# Altium footprint library Hello.PcbLib: 234 footprints (part 2 of 15)
Each footprint in its own frame and in the unit in brackets; x right, y up, seen from the top. Pads: shape width x height; smd on the part's side, far side on the other; paste and mask are expansions set on the pad; w line width, h text height; cw(c..) or ccw(c..) is an arc to the next point about the centre after c.
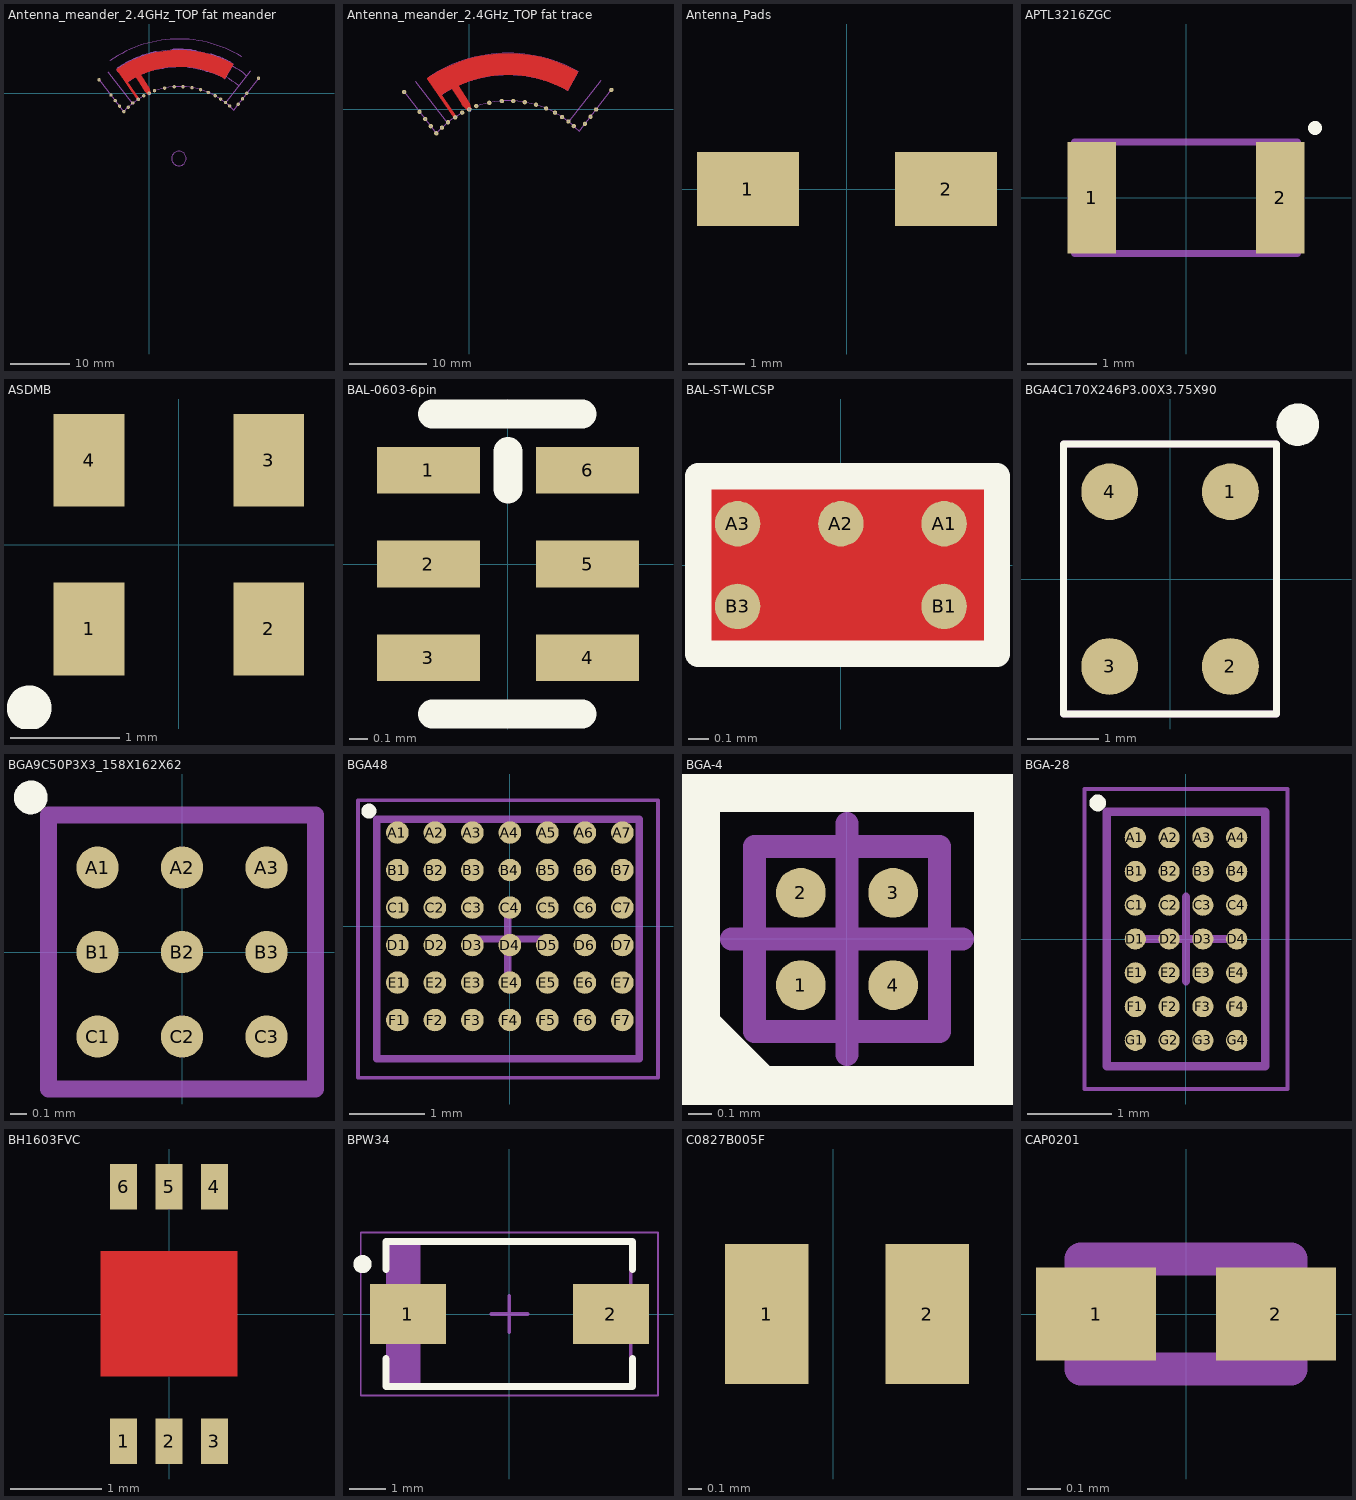
[diagram p1: the footprints below, top view; thin cyan lines are the x and y axes]

## Antenna_meander_2.4GHz_TOP fat meander [mm] "Antenna in a meander shape"
pads (25):
  round 0.559 hole 0.305 paste-1: 1(0,0)
  round 0.559 hole 0.2 paste-1: 2(-8.429,2.249) 2(-6.43,-0.318) 2(-5.705,-1.248) 2(-4.98,-2.179) 2(-4.261,-3.101) 2(-3.532,-2.367) 2(-2.757,-1.667) 2(-1.82,-1.038) 2(-0.906,-0.423) 2(0.906,0.423) 2(2.6,0.85) 2(4.225,1.075) 2(5.7,1.075) 2(7.2,0.925) 2(8.65,0.6) 2(9.95,0.125) 2(11.106,-0.423) 2(12.025,-1) 2(12.843,-1.567) 2(13.543,-2.167) 2(14.981,-1.878) 2(15.706,-0.948) 2(16.431,-0.017) 2(18.406,2.518)
Top Layer:
  region: -3.759,1.779 -5.326,4.101 -4.988,4.336 -3.852,5.01 -2.67,5.602 -1.449,6.107 -0.195,6.525 1.085,6.852 2.386,7.086 3.699,7.227 5.02,7.275 6.341,7.227 7.655,7.086 8.955,6.852 10.235,6.525 11.489,6.107 12.71,5.602 13.892,5.01 14.116,4.877 14.113,4.874 12.735,2.437 12.153,2.762 11.033,3.279 9.875,3.706 8.688,4.041 7.478,4.281 6.253,4.426 5.02,4.475 3.787,4.426 2.562,4.281 1.352,4.041 0.165,3.706 -0.993,3.279 -2.113,2.762 -3.189,2.16
  region: 0,0.925 0.275,0.075 0.1,-0.15 -0.2,-0.175 -0.8,0.4 -0.494,0.8
  lines w0.45: -5.238,3.95 -1.813,-1.025
  lines w1: -3.068,4.845 -0.47,0.762
Bottom Layer:
  circle w0.1: c0,0 r0.168
  circle w0.1: c0,0 r0.25
Mechanical 13:
  circle w0.1: c5,-11 r1.221
  lines w0.1: -6.604,5.428 cw(c5,-11) 15.541,6.129 ; -3.951,2.078 cw(c5,-11) 15.095,1.217 ; -0.198,6.233 ccw(c5,-11) -5.16,3.859 cw(c5,-11) 16.361,2.962
  lines w1: -4.961,3.992 cw(c5,-11) 1.104,6.573 ; 0.989,6.531 1.659,4.586 ; 1.57,4.472 cw(c5,-11) 4.309,4.833 ; 4.2,6.9 4.389,4.899 ; 4.215,6.983 cw(c5,-11) 7.661,6.802 ; 6.764,4.75 cw(c3.338,-18.175) 10.501,3.871 ; 7.309,4.821 7.699,6.769 ; 9.862,4.178 10.522,6.063 ; 10.413,6.167 cw(c5,-11) 13.45,4.893
Mechanical 15:
  lines w0.05: -8.429,2.249 -4.255,-3.109 cw(c5.1,-11.4) -0.907,-0.438 ; -6.999,3.625 -2.825,-1.733 ; 0.924,0.382 cw(c5.1,-11.4) 14.222,-2.853 18.406,2.518 ; 12.735,2.437 ccw(c5.02,-11.237) -3.759,1.779 -5.325,4.1 cw(c5.02,-11.237) 14.113,4.874 12.735,2.437 ; 12.891,-1.625 17.075,3.747
Multi-Layer:
  pour cut-out: 19.225,3.575 14.5,-2.496 13.45,-1.675 12.175,-0.775 11.25,-0.2 10.05,0.375 8.709,0.85 7.25,1.2 5.7,1.375 4.225,1.35 2.55,1.125 0.8,0.65 0.95,0.15 1,-0.125 1,-0.4 0.9,-0.6 0.775,-0.75 0.65,-0.875 0.492,-0.975 0.3,-1.025 0.075,-1.05 -0.15,-1.05 -0.35,-0.95 -0.906,-0.423 -1.075,-0.25 -2.925,-1.45 -3.725,-2.15 -4.425,-2.875 -9.25,3.325 -5.95,5.988 -3.75,7.263 -1.05,8.213 1.15,8.725 3.075,9 4.9,9.113 6.925,9.013 8.6,8.8 10.65,8.338 13.125,7.525 15.6,6.225
3D body: height 0.1, standoff 0, extent -9.25,-3.3 19.225,9.113

## Antenna_meander_2.4GHz_TOP fat trace [mm] "Antenna in a meander shape"
pads (25):
  round 0.559 hole 0.305 paste-1: 1(0,0)
  round 0.559 hole 0.2 paste-1: 2(-8.429,2.249) 2(-6.43,-0.318) 2(-5.705,-1.248) 2(-4.98,-2.179) 2(-4.261,-3.101) 2(-3.532,-2.367) 2(-2.757,-1.667) 2(-1.82,-1.038) 2(-0.906,-0.423) 2(0.906,0.423) 2(2.6,0.85) 2(4.225,1.075) 2(5.7,1.075) 2(7.2,0.925) 2(8.65,0.6) 2(9.95,0.125) 2(11.106,-0.423) 2(12.025,-1) 2(12.843,-1.567) 2(13.543,-2.167) 2(14.981,-1.878) 2(15.706,-0.948) 2(16.431,-0.017) 2(18.406,2.518)
Top Layer:
  region: -3.759,1.779 -5.326,4.101 -4.988,4.336 -3.852,5.01 -2.67,5.602 -1.449,6.107 -0.195,6.525 1.085,6.852 2.386,7.086 3.699,7.227 5.02,7.275 6.341,7.227 7.655,7.086 8.955,6.852 10.235,6.525 11.489,6.107 12.71,5.602 13.892,5.01 14.116,4.877 14.113,4.874 12.735,2.437 12.153,2.762 11.033,3.279 9.875,3.706 8.688,4.041 7.478,4.281 6.253,4.426 5.02,4.475 3.787,4.426 2.562,4.281 1.352,4.041 0.165,3.706 -0.993,3.279 -2.113,2.762 -3.189,2.16
  region: 0,0.925 0.275,0.075 0.1,-0.15 -0.2,-0.175 -0.8,0.4 -0.494,0.8
  lines w0.45: -5.238,3.95 -1.813,-1.025
  lines w1: -3.068,4.845 -0.47,0.762
Bottom Layer:
  circle w0.1: c0,0 r0.168
  circle w0.1: c0,0 r0.25
Mechanical 15:
  lines w0.05: -8.429,2.249 -4.255,-3.109 cw(c5.1,-11.4) -0.907,-0.438 ; -6.999,3.625 -2.825,-1.733 ; 0.924,0.382 cw(c5.1,-11.4) 14.222,-2.853 18.406,2.518 ; 12.735,2.437 ccw(c5.02,-11.237) -3.759,1.779 -5.325,4.1 cw(c5.02,-11.237) 14.113,4.874 12.735,2.437 ; 12.891,-1.625 17.075,3.747
Multi-Layer:
  pour cut-out: 19.225,3.575 14.5,-2.496 13.45,-1.675 12.175,-0.775 11.25,-0.2 10.05,0.375 8.709,0.85 7.25,1.2 5.7,1.375 4.225,1.35 2.55,1.125 0.8,0.65 0.95,0.15 1,-0.125 1,-0.4 0.9,-0.6 0.775,-0.75 0.65,-0.875 0.492,-0.975 0.3,-1.025 0.075,-1.05 -0.15,-1.05 -0.35,-0.95 -0.906,-0.423 -1.075,-0.25 -2.925,-1.45 -3.725,-2.15 -4.425,-2.875 -9.25,3.325 -5.95,5.988 -3.75,7.263 -1.05,8.213 1.15,8.725 3.075,9 4.9,9.113 6.925,9.013 8.6,8.8 10.65,8.338 13.125,7.525 15.6,6.225
3D body: height 0.1, standoff 0, extent -9.25,-3.3 19.225,9.113

## Antenna_Pads [mm] "Antenna pads for external IFA"
pads (2):
  rect 1.8x1.3 smd: 1(-1.75,0) 2(1.75,0)

## APTL3216ZGC [mm] "Kingbright green LED"
height 1.1
pads (2):
  rect 0.7x1.6 smd: 1(-1.35,0) 2(1.35,0)
Top Overlay:
  circle w0.1: c1.85,1 r0.05
Mechanical 13:
  lines w0.1: -1.6,-0.8 -1.6,0.8 1.6,0.8 1.6,-0.8 -1.6,-0.8
3D body: height 1.1, standoff 0, extent -0.794,-0.798 0.8,0.798
3D body: height 0.25, standoff 0, extent -1.6,-0.8 1.6,0.8

## ASDMB [mm] "Abracon ASDMB Crystal Oscillator 2.5 x 2.0x 0.8mm"
height 0.8
pads (4):
  rect 0.65x0.85 smd: 1(-0.825,-0.775) 2(0.825,-0.775) 3(0.825,0.775) 4(-0.825,0.775)
Top Overlay:
  circle w0.3: c-1.375,-1.5 r0.056
3D body: height 0.8, standoff 0, extent -1.25,-1 1.25,1

## BAL-0603-6pin [mm] "1608 balun, 6-Pins, Body 0.8x1.6mm, Pitch 0.50mm"
height 0.7
pads (6):
  rect 0.55x0.25 smd: 1(-0.425,0.5) 2(-0.425,0) 3(-0.425,-0.5) 4(0.425,-0.5) 5(0.425,0) 6(0.425,0.5)
Top Overlay:
  lines w0.152: -0.405,-0.8 0.395,-0.8 ; -0.405,0.8 0.395,0.8 ; 0,0.4 0,0.6
3D body: height 0.6, standoff 0, extent -0.405,-0.8 0.395,0.8
3D body: height 0.62, standoff 0, extent -0.41,0.4 -0.26,0.6
3D body: height 0.62, standoff 0, extent -0.41,-0.1 -0.26,0.1
3D body: height 0.62, standoff 0, extent -0.41,-0.6 -0.26,-0.4
3D body: height 0.62, standoff 0, extent 0.26,-0.6 0.41,-0.4
3D body: height 0.62, standoff 0, extent 0.26,-0.1 0.41,0.1
3D body: height 0.62, standoff 0, extent 0.26,0.4 0.41,0.6
3D body: height 0.62, standoff 0, extent -0.04,0.4 0.04,0.6

## BAL-ST-WLCSP [mm]
pads (5):
  round 0.22 smd mask+0.05: A1(0.5,0.2) A2(0,0.2) A3(-0.5,0.2) B1(0.5,-0.2) B3(-0.5,-0.2)
Top Layer:
  pour cut-out: -0.697,-0.43 0.756,-0.43 0.756,0.44 -0.697,0.44
Top Overlay:
  lines w0.127: -0.69,-0.43 -0.69,0.43 0.756,0.43 0.756,-0.43 -0.69,-0.43
3D body: height 0.51, standoff 0.11, extent -0.69,-0.43 0.759,0.43
3D body: height 0.63, standoff 0.51, extent -0.703,-0.43 0.76,0.43
3D body: height 0.17, standoff -0.05, extent -0.109,0.091 0.11,0.31
3D body: height 0.17, standoff -0.05, extent 0.391,-0.309 0.61,-0.09
3D body: height 0.17, standoff -0.05, extent -0.609,0.091 -0.39,0.31
3D body: height 0.17, standoff -0.05, extent -0.609,-0.309 -0.39,-0.09
3D body: height 0.17, standoff -0.05, extent 0.391,0.091 0.61,0.31

## BGA4C170X246P3.00X3.75X90 [mm] "BGA, 4-Leads, Body 3.00x3.75mmx0.90mm, Pitch 0.1.70x2.46mm"
height 0.9
pads (4):
  round 0.8 smd: 1(0.85,1.23) 2(0.85,-1.23) 3(-0.85,-1.23) 4(-0.85,1.23)
Top Overlay:
  circle w0.3: c1.8,2.175 r0.15
  lines w0.1: -1.5,-1.9 1.5,-1.9 1.5,1.9 -1.5,1.9 -1.5,-1.9
Mechanical 13:
  lines w0.1: -1.5,-1.9 1.5,-1.9 1.5,1.9 -1.5,1.9 -1.5,-1.9
3D body: height 0.63, standoff 0.15, extent -1.5,-1.875 1.475,1.875

## BGA9C50P3X3_158X162X62 [mm] "BGA, 9-Leads, Body 1.58x1.62mmx0.63mm, Pitch 0.50mm"
height 0.63
pads (9):
  round 0.25 smd: A1(-0.5,0.5) A2(0,0.5) A3(0.5,0.5) B1(-0.5,0) B2(0,0) B3(0.5,0) C1(-0.5,-0.5) C2(0,-0.5) C3(0.5,-0.5)
Top Overlay:
  circle w0.1: c-0.895,0.915 r0.05
Mechanical 13:
  lines w0.1: -0.79,-0.81 -0.79,0.81 0.79,0.81 0.79,-0.81 -0.79,-0.81
3D body: height 0.63, standoff 0.15, extent -0.79,-0.81 0.79,0.81

## BGA48 [mm] "BGA, 42-Leads, Body 3.50x3.20mmx0.60mm, Pitch 0.50mm"
height 0.6
pads (42):
  round 0.3 smd: A1(-1.5,1.25) A2(-1,1.25) A3(-0.5,1.25) A4(0,1.25) A5(0.5,1.25) A6(1,1.25) A7(1.5,1.25) B1(-1.5,0.75) B2(-1,0.75) B3(-0.5,0.75) B4(0,0.75) B5(0.5,0.75) B6(1,0.75) B7(1.5,0.75) C1(-1.5,0.25) C2(-1,0.25) C3(-0.5,0.25) C4(0,0.25) C5(0.5,0.25) C6(1,0.25) C7(1.5,0.25) D1(-1.5,-0.25) D2(-1,-0.25) D3(-0.5,-0.25) D4(0,-0.25) D5(0.5,-0.25) D6(1,-0.25) D7(1.5,-0.25) E1(-1.5,-0.75) E2(-1,-0.75) E3(-0.5,-0.75) E4(0,-0.75) E5(0.5,-0.75) E6(1,-0.75) E7(1.5,-0.75) F1(-1.5,-1.25) F2(-1,-1.25) F3(-0.5,-1.25) F4(0,-1.25) F5(0.5,-1.25) F6(1,-1.25) F7(1.5,-1.25)
Top Overlay:
  circle w0.1: c-1.88,1.536 r0.05
Mechanical 13:
  lines w0.1: -1.775,-1.769 1.725,-1.769 1.725,1.431 -1.775,1.431 -1.775,-1.769
Mechanical 15:
  lines w0.05: -2.025,-2.019 1.975,-2.019 1.975,1.681 -2.025,1.681 -2.025,-2.019
  lines w0.1: -0.525,-0.169 0.475,-0.169 ; -0.025,-0.669 -0.025,0.331
3D body: height 0.6, standoff 0.21, extent -1.775,-1.769 1.725,1.431

## BGA-4 [mm] "BGA, 4-Leads, Body 0.80x0.80mmx0.40mm, Pitch 0.40mm for Si8802DB"
height 0.4
pads (4):
  round 0.215 smd: 1(-0.2,-0.2) 2(-0.2,0.2) 3(0.2,0.2) 4(0.2,-0.2)
Top Overlay:
  lines w0.2: -0.65,-0.376 -0.401,-0.625 ; -0.65,-0.65 0.65,-0.65 0.65,0.65 -0.65,0.65 -0.65,-0.65
Mechanical 13:
  lines w0.1: -0.4,-0.4 0.4,-0.4 0.4,0.4 -0.4,0.4 -0.4,-0.4
Mechanical 15:
  lines w0.05: -0.65,-0.65 0.65,-0.65 0.65,0.65 -0.65,0.65 -0.65,-0.65
  lines w0.1: -0.5,0 0.5,0 ; 0,-0.5 0,0.5
3D body: height 0.4, standoff 0.13, extent -0.4,-0.4 0.4,0.4

## BGA-28 [mm] "1.91mm x 3.03mm 28-ball BGA"
height 0.5
pads (28):
  round 0.25 smd: A1(-0.6,1.2) A2(-0.2,1.2) A3(0.2,1.2) A4(0.6,1.2) B1(-0.6,0.8) B2(-0.2,0.8) B3(0.2,0.8) B4(0.6,0.8) C1(-0.6,0.4) C2(-0.2,0.4) C3(0.2,0.4) C4(0.6,0.4) D1(-0.6,0) D2(-0.2,0) D3(0.2,0) D4(0.6,0) E1(-0.6,-0.4) E2(-0.2,-0.4) E3(0.2,-0.4) E4(0.6,-0.4) F1(-0.6,-0.8) F2(-0.2,-0.8) F3(0.2,-0.8) F4(0.6,-0.8) G1(-0.6,-1.2) G2(-0.2,-1.2) G3(0.2,-1.2) G4(0.6,-1.2)
Top Overlay:
  circle w0.1: c-1.045,1.61 r0.05
Mechanical 13:
  lines w0.1: -0.94,-1.505 0.94,-1.505 0.94,1.505 -0.94,1.505 -0.94,-1.505
Mechanical 15:
  lines w0.05: -1.2,-1.775 1.2,-1.775 1.2,1.775 -1.2,1.775 -1.2,-1.775
  lines w0.1: -0.5,0 0.5,0 ; 0,-0.5 0,0.5
3D body: height 0.5, standoff 0.13, extent -0.94,-1.505 0.94,1.505

## BH1603FVC [mm] "custom footprint for Rohm ambient light sensor"
height 0.75
pads (6):
  rect 0.3x0.5 smd: 1(-0.5,-1.4) 2(0,-1.4) 3(0.5,-1.4) 4(0.5,1.4) 5(0,1.4) 6(-0.5,1.4)
Top Layer:
  pour cut-out: -0.75,0.688 -0.75,-0.687 0.75,-0.687 0.75,0.688
3D body: height 0.75, standoff 0.14, extent -0.75,-1.425 0.75,1.425

## BPW34 [mm] "Photodiode"
height 1.2
pads (2):
  rect 2.1x1.65 smd: 1(-2.8,0) 2(2.8,0)
Top Overlay:
  circle w0.25: c-4.05,1.375 r0.125
  lines w0.2: -3.4,-1.225 -3.4,-2 3.4,-2 3.4,-1.225 ; -3.4,1.225 -3.4,2 3.4,2 3.4,1.225
Mechanical 13:
  rectangle: -3.35,-2 -2.449,2
  lines w0.1: -3.35,-2 3.35,-2 3.35,2 -3.35,2 -3.35,-2
Mechanical 15:
  lines w0.05: -4.1,-2.25 4.1,-2.25 4.1,2.25 -4.1,2.25 -4.1,-2.25
  lines w0.1: -0.5,0 0.5,0 ; 0,-0.5 0,0.5
3D body: height 1.2, standoff 0, extent -3.35,-2 3.35,2

## C0827B005F [mm] "JinLong Machinery 8mm diameter radial vibration motor"
height 2.9
pads (2):
  rect 0.6x1 smd: 1(-0.475,6.575) 2(0.675,6.575)
3D body: height 2.9, standoff 0.2, extent -3.968,-3.992 4,3.992
3D body: height 1.8, standoff 0.2, extent -1.088,3.95 1.287,6.05

## CAP0201 [mm] "Chip Capacitor, 2-Leads, Body 0201 / 0.60x0.30mm, IPC High Density"
height 0.33
pads (2):
  rect 0.36x0.28 smd: 1(-0.27,0) 2(0.27,0)
Mechanical 13:
  lines w0.1: -0.315,-0.165 0.315,-0.165 0.315,0.165 -0.315,0.165 -0.315,-0.165
3D body: height 0.33, standoff 0, extent 0.165,-0.165 0.315,0.165
3D body: height 0.33, standoff 0, extent -0.315,-0.165 -0.165,0.165
3D body: height 0.33, standoff 0, extent -0.165,-0.165 0.165,0.165